# EAGLE library part 618062325323 (library Wurth_Elektronik_Electromechanic_Input-Output_Connectors_rev16a)
WR-DSUB Male High Density Angled PCB Connector without Hex Screw, 62 Pins=>Code : Con_I-O_DSUB_PCB_Male_wo-screw_618062325323 <http://katalog.we-online.de/media/images/eican/Con_I-O_DSUB_PCB_Male_wo-screw_6180xx325323_pf2.jpg> Details see: http://katalog.we-online.de/en/em/618_0xx_325_323 Created 2014-07-10, Karrer Zheng 2014 (C) Würth Elektronik
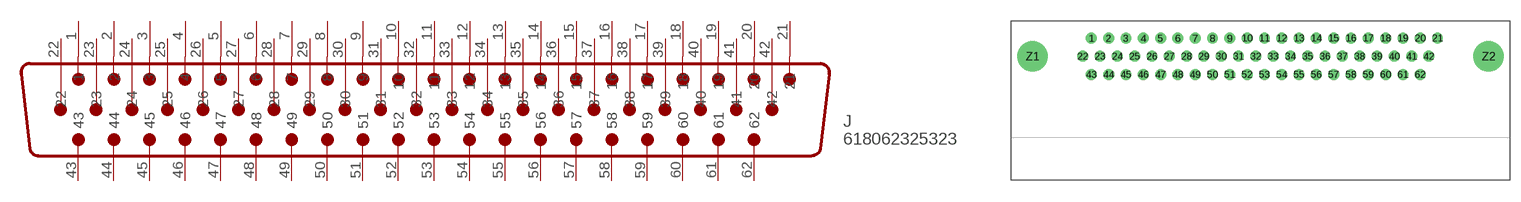
[diagram p55: symbol with the pads of 618062325323; footprint 618062325323]

Designator prefix J

## 618062325323  [618062325323]
1  1
2  2
3  3
4  4
5  5
6  6
7  7
8  8
9  9
10  10
11  11
12  12
13  13
14  14
15  15
16  16
17  17
18  18
19  19
20  20
21  21
22  22
23  23
24  24
25  25
26  26
27  27
28  28
29  29
30  30
31  31
32  32
33  33
34  34
35  35
36  36
37  37
38  38
39  39
40  40
41  41
42  42
43  43
44  44
45  45
46  46
47  47
48  48
49  49
50  50
51  51
52  52
53  53
54  54
55  55
56  56
57  57
58  58
59  59
60  60
61  61
62  62

## Footprint 618062325323 (pad centres in mm)
WR-DSUB Male High Density Angled PCB Connector without Hex Screw, 62 Pins
drill 1: 1 -19.74,2.54; 2 -17.33,2.54; 3 -14.92,2.54; 4 -12.51,2.54; 5 -10.1,2.54; 6 -7.69,2.54; 7 -5.28,2.54; 8 -2.87,2.54; 9 -0.46,2.54; 10 1.95,2.54; 11 4.36,2.54; 12 6.77,2.54; 13 9.18,2.54; 14 11.59,2.54; 15 14,2.54; 16 16.41,2.54; 17 18.82,2.54; 18 21.23,2.54; 19 23.64,2.54; 20 26.05,2.54; 21 28.46,2.54; 22 -20.94,0; 23 -18.53,0; 24 -16.12,0; 25 -13.71,0; 26 -11.3,0; 27 -8.89,0; 28 -6.48,0; 29 -4.07,0; 30 -1.66,0; 31 0.75,0; 32 3.16,0; 33 5.57,0; 34 7.98,0; 35 10.39,0; 36 12.8,0; 37 15.21,0; 38 17.62,0; 39 20.03,0; 40 22.44,0; 41 24.85,0; 42 27.25,0; 43 -19.74,-2.54; 44 -17.33,-2.54; 45 -14.92,-2.54; 46 -12.51,-2.54; 47 -10.1,-2.54; 48 -7.69,-2.54; 49 -5.28,-2.54; 50 -2.87,-2.54; 51 -0.46,-2.54; 52 1.95,-2.54; 53 4.36,-2.54; 54 6.77,-2.54; 55 9.18,-2.54; 56 11.59,-2.54; 57 14,-2.54; 58 16.41,-2.54; 59 18.82,-2.54; 60 21.23,-2.54; 61 23.64,-2.54; 62 26.05,-2.54
drill 3.2: Z1 -27.94,0; Z2 35.56,0